# Altium footprint library PCB - CRYSTALS - ECS ECX-1247B.PCBLIB: 1 footprints
Each footprint in its own frame and in the unit in brackets; x right, y up, seen from the top. Pads: shape width x height; smd on the part's side, far side on the other; paste and mask are expansions set on the pad; w line width, h text height; cw(c..) or ccw(c..) is an arc to the next point about the centre after c.
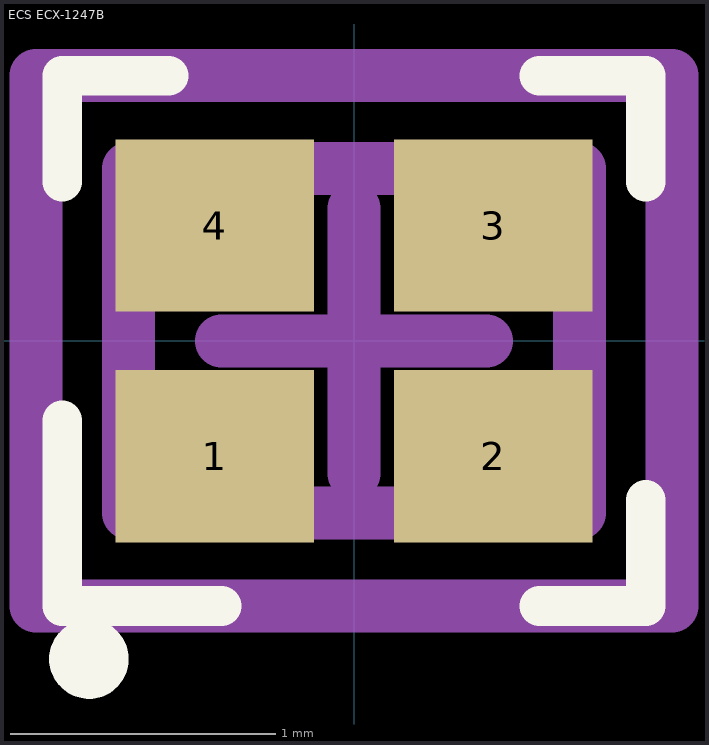
[diagram p0: the footprint, top view; thin cyan lines are the x and y axes]

## ECS ECX-1247B [mm] "SMD Crystal 1.6 x 1.2mm"
height 0.35
pads (4):
  rect 0.75x0.65 smd: 1(-0.525,-0.435) 2(0.525,-0.435) 3(0.525,0.435) 4(-0.525,0.435)
Top Overlay:
  circle w0.2: c-1,-1.2 r0.05
  lines w0.15: -1.1,-0.3 -1.1,-1 -0.5,-1 ; -1.1,0.6 -1.1,1 -0.7,1 ; 0.7,-1 1.1,-1 1.1,-0.6 ; 0.7,1 1.1,1 1.1,0.6
Top Assembly:
  lines w0.2: -0.5,0 0.5,0 ; 0,-0.5 0,0.5 ; -0.85,-0.65 -0.85,0.65 0.85,0.65 0.85,-0.65 -0.85,-0.65
Top Courtyard (Mech15):
  lines w0.2: -1.2,-1 1.2,-1 1.2,1 -1.2,1 -1.2,-1
3D body "ECS ECX-1247B.step": height 0.35, standoff 0, extent -0.85,-0.65 0.85,0.65